# Altium schematic symbol library Si1142.Schlib: 1 symbol
Pins are listed as number, name and electrical type; pins without a type are passive.

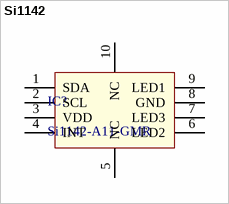
[diagram p0: symbol Si1142]

## Si1142
designator IC?, comment Si1142-A11-GMR
Proximity Sensors I2C Proximity Amb Light Sensor 2 LED
pins: 1 SDA, 2 SCL, 3 VDD, 4 INT, 5 NC, 6 LED2, 7 LED3, 8 GND, 9 LED1, 10 NC